# EAGLE library part TP4056-MODULE (library Batteriehalter - 18650)
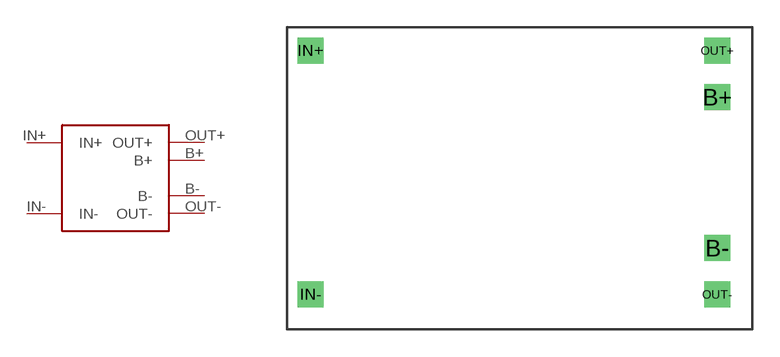
[diagram p5: symbol with the pads of TP4056-LITHIUM-PROTECTED-MODULE; footprint TP4056-LITHIUM-PROTECTED-MODULE]

Designator prefix -

## TP4056-MODULE  [TP4056-LITHIUM-PROTECTED-MODULE]
B+  B+  pwr
B-  B-  pwr
IN+  IN+  pwr
IN-  IN-  pwr
OUT+  OUT+  pwr
OUT-  OUT-  pwr

## Footprint TP4056-LITHIUM-PROTECTED-MODULE (pad centres in mm)
drill 0.9 square: B+ 10.795,4.445; B- 10.795,-3.81; IN+ -11.43,6.985; IN- -11.43,-6.35; OUT+ 10.795,6.985; OUT- 10.795,-6.35